# EAGLE library part MCP7952X (library kanflo)
Microchip MCP7952X 3V SPI Real-Time Clock Calendar with Battery Switchover Package: MSOP 10 Timekeeping Features: Real-Time Clock/Calendar: Hours, Minutes, Seconds, Hundredth of Seconds, Day of Week, Month, Year, Leap Year Crystal Oscillator requires External 32,768kHz Tuning Fork Crystal and Load Capacitors. Clock Out Function: 1Hz, 4.096kHz, 8.192kHz, 32.768kHz 2 Programmable Alarms Programmable open drain output – Alarm or Interrupt On-Chip Digital Trimming/Calibration: +/-255 PPM range in 1PPM steps Power-Fail Time-Stamp @ Battery Switchover: Logs time when VCC fails and VCC is restored Low-Power Features: Wide Operating Voltage: VCC: 1.8V to 3.6V VBAT: 1.3V to 3.6V Low Operating Current: VCC Standby Current: <1uA @ 3V VBAT Timekeeping Current: <700nA @ 1.8V Automatic Battery Switchover from VCC to VBAT: Backup power for timekeeping and SRAM retention User Memory: 64-Byte Battery-BackedSRAM 2Kbit and 1Kbit EEPROM Memory: Software block write-protect(1⁄4, 1⁄2, or entire array) Write Page mode (up to 8 bytes) Endurance:1M erase/write cycles 128-Bit UniqueI Din Protected Area of EEPROM: Available blank or preprogrammed EUI-48TM or EUI-64TM MAC address Unlock sequence for user programming Operating Ranges: SPI Clock Speed up to 5 MHz Operating Temperature Ranges: Industrial (I Temp): -40°C to +85°C. Packages include 10-Lead MSOP and TDFN
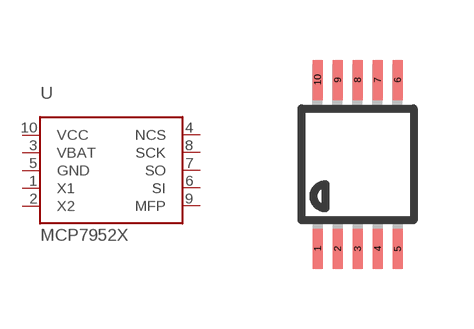
[diagram p2: symbol with the pads of MSOP10; footprint MSOP10]

Designator prefix U

## MCP7952X  [MSOP10]
1  X1
2  X2
3  VBAT  pwr
4  NCS  in
5  GND  pwr
6  SI  in
7  SO  out
8  SCK  in
9  MFP  out
10  VCC  pwr

## Footprint MSOP10 (pad centres in mm)
10-Lead Mini Small Outline Package [MSOP] (RM-10) Source: http://www.analog.com/UploadedFiles/Data_Sheets/35641221898805SSM2167_b.pdf COMPLIANT TO JEDEC STANDARDS MO-187BA
smd 0.25 x 1: 1 -1,-2.113; 2 -0.5,-2.113; 3 0,-2.113; 4 0.5,-2.113; 5 1,-2.113; 6 1,2.113; 7 0.5,2.113; 8 0,2.113; 9 -0.5,2.113; 10 -1,2.113